# EAGLE library part MCP6074-X_SL (library MCP6074)
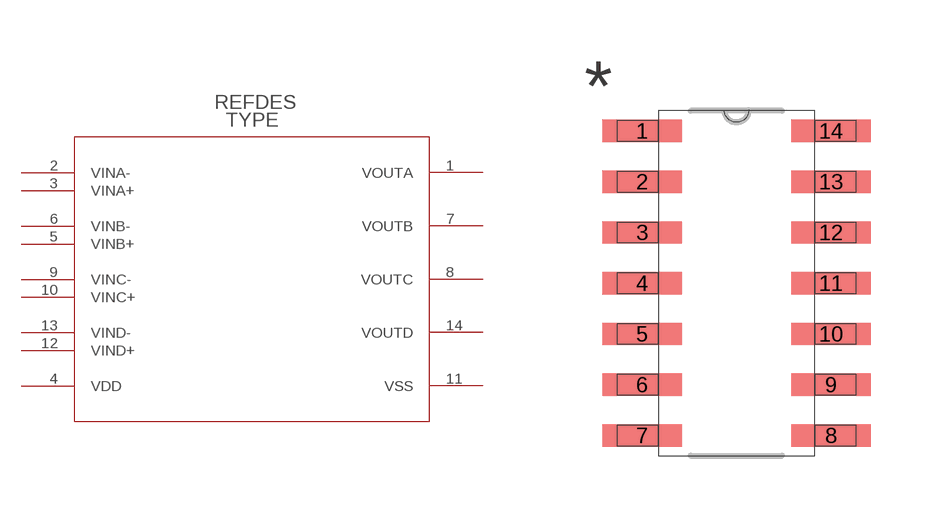
[diagram p0: symbol with the pads of SOIC14-N_MC; footprint SOIC14-N_MC]

Designator prefix -

## MCP6074-X_SL  [SOIC14-N_MC]
1  VOUTA  pas
2  VINA-  pas
3  VINA+  pas
4  VDD  pas
5  VINB+  pas
6  VINB-  pas
7  VOUTB  pas
8  VOUTC  pas
9  VINC-  pas
10  VINC+  pas
11  VSS  pas
12  VIND+  pas
13  VIND-  pas
14  VOUTD  pas

## Footprint SOIC14-N_MC (pad centres in mm)
smd 1.981 x 0.559: 1 -2.362,3.81; 2 -2.362,2.54; 3 -2.362,1.27; 4 -2.362,0; 5 -2.362,-1.27; 6 -2.362,-2.54; 7 -2.362,-3.81; 8 2.362,-3.81; 9 2.362,-2.54; 10 2.362,-1.27; 11 2.362,0; 12 2.362,1.27; 13 2.362,2.54; 14 2.362,3.81